# Altium footprint library Freezer_Power.PcbLib: 40 footprints (part 1 of 3)
Each footprint in its own frame and in the unit in brackets; x right, y up, seen from the top. Pads: shape width x height; smd on the part's side, far side on the other; paste and mask are expansions set on the pad; w line width, h text height; cw(c..) or ccw(c..) is an arc to the next point about the centre after c.
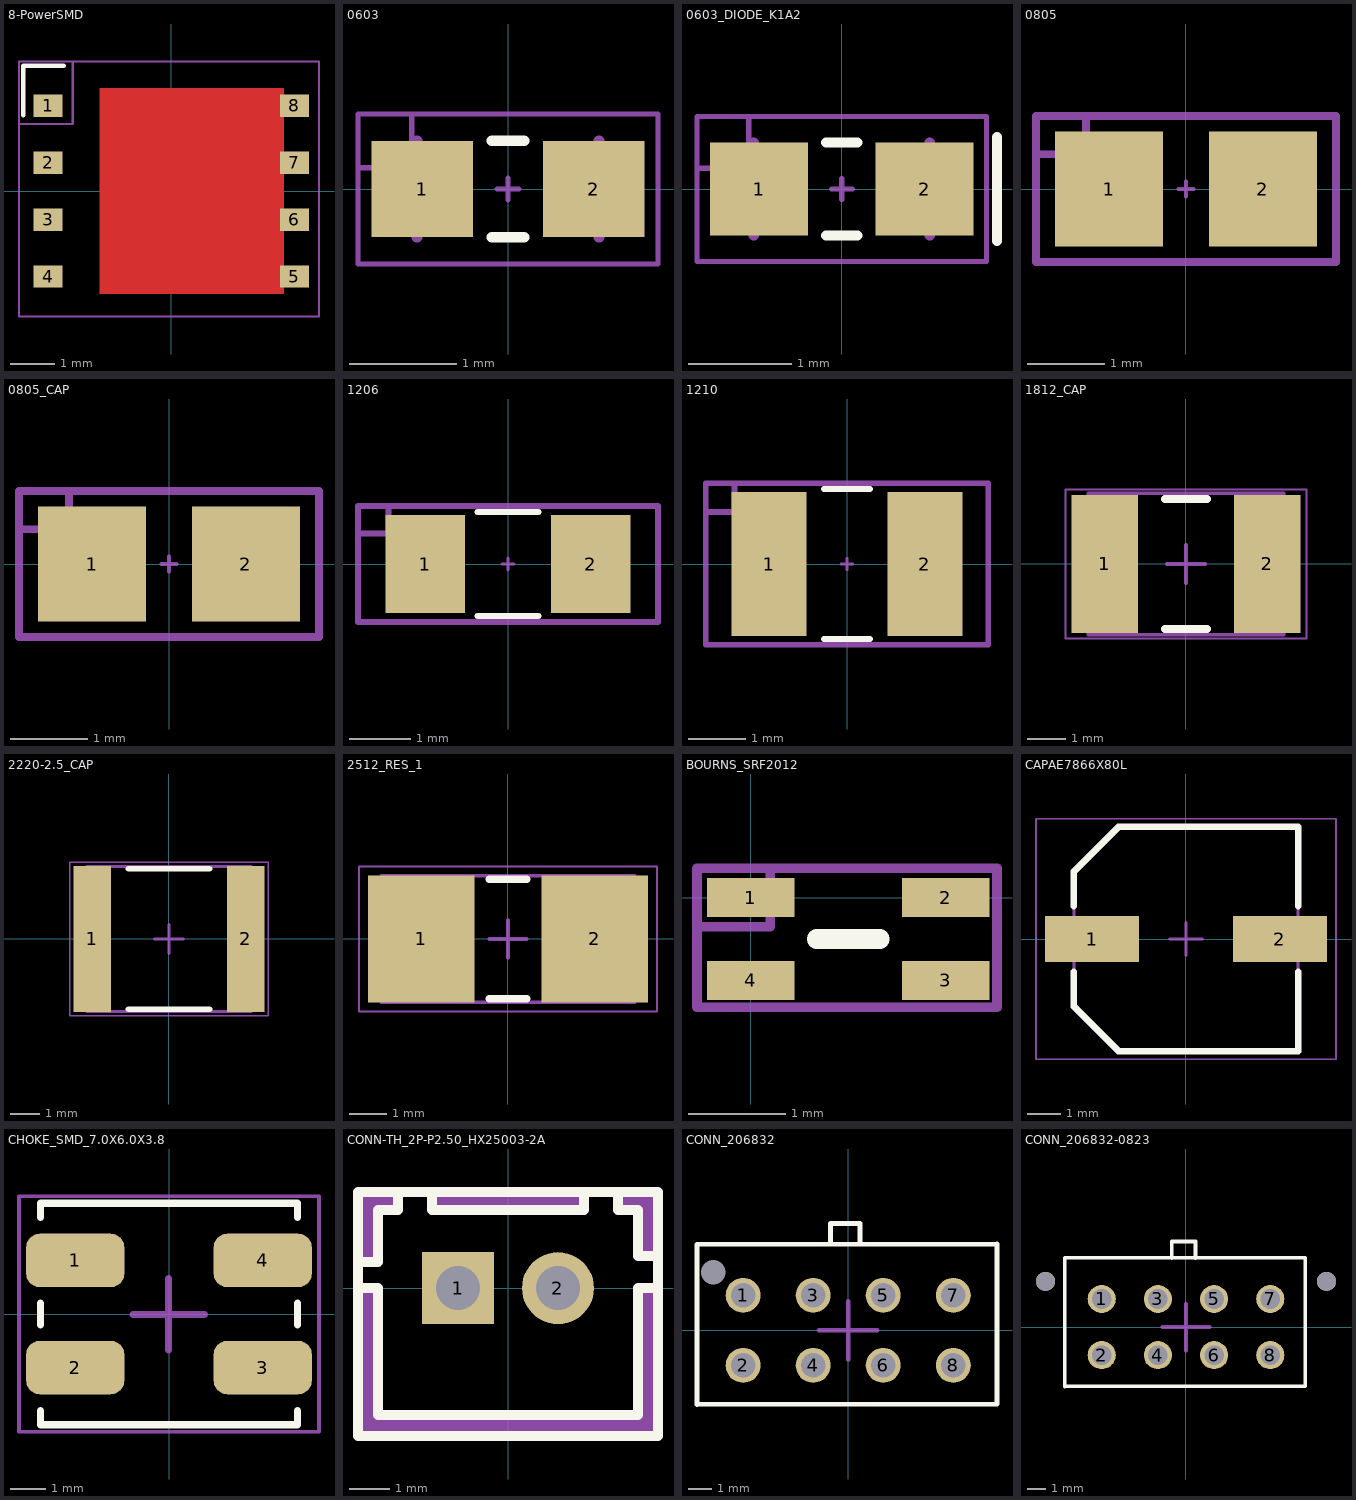
[diagram p0: the footprints below, top view; thin cyan lines are the x and y axes]

## 8-PowerSMD [mm]
height 1
pads (8):
  rect 0.65x0.5 smd paste-0.05 mask+0.051: 1(-2.75,1.905) 2(-2.75,0.635) 3(-2.75,-0.635) 4(-2.75,-1.905) 5(2.75,-1.905) 6(2.75,-0.635) 7(2.75,0.635) 8(2.75,1.905)
Top Layer:
  rectangle: -1.6,-2.299 2.52,2.301
Top Overlay:
  lines w0.1: -3.3,1.7 -3.3,2.8 -2.4,2.8
Top Component Center:
  lines w0.1: -0.75,0 0.75,0 ; 0,-0.75 0,0.75
Top Courtyard:
  lines w0.05: -3.4,1.5 -2.2,1.5 -2.2,2.9 ; -3.4,-2.8 -3.4,2.9 3.3,2.9 3.3,-2.8 -3.4,-2.8
  lines w0.1: -0.75,0 0.75,0 ; 0,-0.75 0,0.75
Top Designator:
  text ".Designator" at -2.252,-0.226 h1
3D body: height 1, standoff 0, extent -2.825,-2.65 2.825,2.65

## 0603 [mm] "Chip Capacitor, 2-Leads, Body 1.60x0.80mm, IPC Medium Density"
height 0.6
pads (2):
  rect 0.95x0.9 smd: 1(-0.8,0) 2(0.8,0)
Top Overlay:
  lines w0.1: -0.15,-0.45 0.15,-0.45 ; -0.15,0.45 0.15,0.45
Top Courtyard:
  lines w0.05: -1.4,0.2 -0.9,0.2 -0.9,0.675 ; -0.1,0 0.1,0 ; 0,-0.1 0,0.1 ; -1.4,-0.7 1.4,-0.7 1.4,0.7 -1.4,0.7 -1.4,-0.7
Top Designator:
  text ".Designator" at -1.3,-0.3 h1
Top 3D Body:
  lines w0.1: -0.85,-0.45 -0.85,0.45 ; 0.85,-0.45 0.85,0.45
3D body: height 0.6, standoff 0, extent -0.45,-0.45 0.45,0.45
3D body: height 0.6, standoff 0, extent 0.45,-0.45 0.85,0.45
3D body: height 0.6, standoff 0, extent -0.85,-0.45 -0.45,0.45

## 0603_DIODE_K1A2 [mm] "Chip Capacitor, 2-Leads, Body 1.60x0.80mm, IPC Medium Density"
height 0.6
pads (2):
  rect 0.95x0.9 smd: 1(-0.8,0) 2(0.8,0)
Top Overlay:
  lines w0.1: -0.15,-0.45 0.15,-0.45 ; -0.15,0.45 0.15,0.45 ; 1.5,-0.5 1.5,0.5
Top Component Center:
  lines w0.05: -0.1,0 0.1,0 ; 0,-0.1 0,0.1
Top Courtyard:
  lines w0.05: -1.4,0.2 -0.9,0.2 -0.9,0.675 ; -0.1,0 0.1,0 ; 0,-0.1 0,0.1 ; -1.4,-0.7 1.4,-0.7 1.4,0.7 -1.4,0.7 -1.4,-0.7
Top Designator:
  text ".Designator" at -2.252,-0.226 h1
Top 3D Body:
  lines w0.1: -0.85,-0.45 -0.85,0.45 ; 0.85,-0.45 0.85,0.45
3D body: height 0.6, standoff 0, extent -0.45,-0.45 0.45,0.45
3D body: height 0.6, standoff 0, extent 0.45,-0.45 0.85,0.45
3D body: height 0.6, standoff 0, extent -0.85,-0.45 -0.45,0.45

## 0805 [mm] "Generic 0805 Footprint"
height 2
pads (2):
  rect 1.4x1.5 smd: 1(-1,0) 2(1,0)
Top Courtyard:
  lines w0.05: -0.1,0 0.1,0 ; 0,-0.1 0,0.1
  lines w0.1: -1.95,0.45 -1.3,0.45 -1.3,0.95 ; -1.95,-0.95 1.95,-0.95 1.95,0.95 -1.95,0.95 -1.95,-0.95
Top Designator:
  text ".Designator" at -1.8,-0.37 h1
3D body "User Library-RESC2012X05N.STEP": height 0.45, standoff 0, extent -1.009,-0.625 0.991,0.625

## 0805_CAP [mm] "Generic 0805 Footprint"
height 2
pads (2):
  rect 1.4x1.5 smd: 1(-1,0) 2(1,0)
Top Courtyard:
  lines w0.05: -0.1,0 0.1,0 ; 0,-0.1 0,0.1
  lines w0.1: -1.95,0.45 -1.3,0.45 -1.3,0.95 ; -1.95,-0.95 1.95,-0.95 1.95,0.95 -1.95,0.95 -1.95,-0.95
Top Designator:
  text ".Designator" at -1.8,-0.37 h1
3D body: height 1.4, standoff 0, extent -1,-0.625 1,0.625

## 1206 [mm] "Generic 1206"
height 3
pads (2):
  rect 1.3x1.6 smd: 1(-1.35,0) 2(1.35,0)
Top Overlay:
  lines w0.1: -0.5,-0.85 0.5,-0.85 ; -0.5,0.85 0.5,0.85
Top Courtyard:
  lines w0.05: -0.1,0 0.1,0 ; 0,-0.1 0,0.1
  lines w0.1: -2.45,0.5 -1.95,0.5 -1.95,0.95 ; -2.45,-0.95 -2.45,0.95 2.45,0.95 2.45,-0.95 -2.45,-0.95
Top Designator:
  text ".Designator" at -2.3,-0.5 h1
3D body "User Library-CAPC3216X___.STEP": height 0.57, standoff 0, extent -1.6,-0.81 1.6,0.81

## 1210 [mm] "Generic 1210"
height 3
pads (2):
  rect 1.3x2.5 smd: 1(-1.35,0) 2(1.35,0)
Top Overlay:
  lines w0.1: -0.4,-1.3 0.4,-1.3 ; -0.4,1.3 0.4,1.3
Top Component Center:
  lines w0.05: -0.1,0 0.1,0 ; 0,-0.1 0,0.1
Top Courtyard:
  lines w0.1: -2.45,0.9 -1.95,0.9 -1.95,1.4 ; -2.45,-1.4 2.45,-1.4 2.45,1.4 -2.45,1.4 -2.45,-1.4
Top Designator:
  text ".Designator" at -2.252,-0.226 h1
Mechanical 15:
  lines w0.05: -0.1,0 0.1,0 ; 0,-0.1 0,0.1
3D body "User Library-RESC3225X06N.STEP": height 0.55, standoff 0, extent -1.6,-1.25 1.6,1.25

## 1812_CAP [mm]
height 2.8
pads (2):
  rect 1.75x3.6 smd: 1(-2.125,0) 2(2.125,0)
Top Overlay:
  lines w0.2: -0.55,-1.7 0.55,-1.7 ; -0.55,1.7 0.55,1.7
Top Assembly:
  lines w0.1: -2.55,-1.85 2.55,-1.85 2.55,1.85 -2.55,1.85 -2.55,-1.85
Top Component Center:
  lines w0.1: -0.5,0 0.5,0 ; 0,-0.5 0,0.5
Top Courtyard:
  lines w0.05: -3.15,-1.95 3.15,-1.95 3.15,1.95 -3.15,1.95 -3.15,-1.95
Top Designator:
  text ".Designator" at -2.252,-0.226 h1
3D body "1812_CAP.step": height 2.8, standoff 0, extent -2.55,-1.85 2.55,1.85

## 2220-2.5_CAP [mm] "Chip Capacitor, 2-Leads, Body 5.70x5.00mm, IPC High Density"
height 2.5
pads (2):
  rect 1.3x5.05 smd: 1(-2.65,0) 2(2.65,0)
Top Overlay:
  lines w0.2: -1.4,-2.425 1.4,-2.425 ; -1.4,2.425 1.4,2.425
Top Assembly:
  lines w0.1: -2.85,-2.5 2.85,-2.5 2.85,2.5 -2.85,2.5 -2.85,-2.5
Top Courtyard:
  lines w0.05: -3.425,-2.65 3.425,-2.65 3.425,2.65 -3.425,2.65 -3.425,-2.65
  lines w0.1: -0.5,0 0.5,0 ; 0,-0.5 0,0.5
Top Designator:
  text ".Designator" at -2.252,-0.226 h1
3D body "2220-2.5_CAP.step": height 2.5, standoff 0, extent -2.85,-2.5 2.85,2.5

## 2512_RES_1 [mm]
height 1
pads (2):
  rect 2.85x3.4 smd: 1(-2.325,0) 2(2.325,0)
Top Overlay:
  lines w0.2: -0.5,-1.6 0.5,-1.6 ; -0.5,1.6 0.5,1.6
Top Assembly:
  lines w0.1: -3.4,-1.7 -3.4,1.7 3.4,1.7 3.4,-1.7 -3.4,-1.7
Top Courtyard:
  lines w0.05: -4,-1.95 -4,1.95 4,1.95 4,-1.95 -4,-1.95
  lines w0.1: -0.5,0 0.5,0 ; 0,-0.5 0,0.5
3D body "2512_RES_1.step": height 1, standoff 0, extent -3.4,-1.7 3.4,1.7

## BOURNS_SRF2012 [mm] "Bourns Common Mode Choke"
height 1.2
pads (4):
  rect 0.9x0.4 smd: 1(0,0) 2(2,0) 3(2,-0.85) 4(0,-0.85)
Top Overlay:
  lines w0.2: 0.675,-0.425 1.325,-0.425
Mechanical 15:
  lines w0.1: -0.55,-0.3 0.2,-0.3 0.2,0.3 ; -0.55,-1.125 -0.55,0.3 2.525,0.3 2.525,-1.125 -0.55,-1.125
Mechanical 22:
  text ".Designator" at 0.3,-0.9 h1
3D body: height 1.2, standoff 0, extent 0,-1.025 2,0.175

## CAPAE7866X80L [mm] "Aluminum Electrolytic Capacitor, Body 6.60x6.60x8.00mm, IPC High Density"
height 8
pads (2):
  rect 2.85x1.4 smd: 1(-2.85,0) 2(2.85,0)
Top Overlay:
  lines w0.2: -3.4,-1 -3.4,-2.05 -2.05,-3.4 3.4,-3.4 3.4,-1 ; -3.4,1 -3.4,2.05 -2.05,3.4 3.4,3.4 3.4,1
Top Assembly:
  lines w0.1: -3.4,-2.05 -2.05,-3.4 3.4,-3.4 3.4,3.4 -2.05,3.4 -3.4,2.05 -3.4,-2.05
Top Component Center:
  lines w0.1: -0.5,0 0.5,0 ; 0,-0.5 0,0.5
Top Courtyard:
  lines w0.05: -4.55,-3.65 -4.55,3.65 4.55,3.65 4.55,-3.65 -4.55,-3.65
  lines w0.1: -0.5,0 0.5,0 ; 0,-0.5 0,0.5
Top Designator:
  text ".Designator" at -5.198,-0.866 h1
3D body "CAPAE7866X80L.step": height 8, standoff 0, extent -3.9,-3.4 3.9,3.4

## CHOKE_SMD_7.0X6.0X3.8 [mm] "Common mode choke 38.5 x 26.5 x 35 with 20.5 x 24.5 lead spacing and 1.6mm wire diameter."
height 27.5
pads (4):
  rrect50% 2.75x1.5 smd: 1(-2.625,1.5) 2(-2.625,-1.5) 3(2.625,-1.5) 4(2.625,1.5)
Top Overlay:
  lines w0.2: -3.6,-2.7 -3.6,-3.1 3.6,-3.1 3.6,-2.7 ; -3.6,-0.3 -3.6,0.3 ; -3.6,2.7 -3.6,3.1 3.6,3.1 3.6,2.7 ; 3.6,-0.3 3.6,0.3
Top Component Center:
  lines w0.2: -1.013,-0.013 0.987,-0.013 ; -0.013,-1.013 -0.013,0.987
Top Courtyard:
  lines w0.1: -4.2,-3.3 -4.2,3.3 4.2,3.3 4.2,-3.3 -4.2,-3.3
Top Designator:
  text ".Designator" at -2.265,-0.239 h1
3D body: height 3.8, standoff 0, extent -3.5,-3 3.5,3

## CONN-TH_2P-P2.50_HX25003-2A [mm]
height 12
pads (2):
  rect 1.8x1.8 hole 1.1 paste+0 mask+0.05: 1(-1.25,0)
  round 1.8 hole 1.1 paste+0 mask+0.05: 2(1.25,0)
Top Overlay:
  lines w0.254: -3.75,-2.416 -3.75,0 -3.25,0 -3.25,-2.416 -3.25,-3.167 3.25,-3.167 3.25,-2.344 3.25,0 3.75,0 3.75,-2.344 ; -3.75,-1.603 -3.75,0.648 -3.25,0.65 -3.25,1.958 -2.75,1.958 -2.75,2.408 ; -1.9,1.95 -1.9,2.4 ; -1.9,1.958 1.9,1.958 ; 1.9,1.95 1.9,2.4 ; 2.75,1.95 2.75,2.399 ; 2.75,1.958 3.25,1.958 3.25,0.8 3.75,0.8 3.75,-1.501 ; -3.75,-3.7 -3.75,2.4 3.75,2.4 3.75,-3.7 -3.75,-3.7
Mechanical 15:
  region: 1.9,2.4 1.9,1.9 -1.9,1.9 -1.9,2.4
  region: 3.25,0 3.75,0 3.75,-3.7 -3.75,-3.7 -3.75,-0.05 -3.25,0 -3.25,-3.167 3.25,-3.167
  region: -2.75,1.9 -3.241,1.9 -3.25,1.908 -3.25,0.75 -3.75,0.75 -3.75,2.35 -2.751,2.35 -2.75,2.349
  region: 2.75,1.95 3.242,1.95 3.25,1.958 3.25,0.8 3.75,0.8 3.75,2.4 2.751,2.4 2.75,2.399
3D body "JST - XH - Thru (V) - 2Pin - 2.54mm.stp": height 7.21, standoff -3, extent -3.607,-3.353 3.607,2.489

## CONN_206832 [mm]
height 9.4
pads (9):
  round 0 hole 1.05 unplated: 0(-5.78,2.48)
  round 1.5 hole 1.05: 1(-4.5,1.5) 2(-4.5,-1.5) 3(-1.5,1.5) 4(-1.5,-1.5) 5(1.5,1.5) 6(1.5,-1.5) 7(4.5,1.5) 8(4.5,-1.5)
Top Overlay:
  lines w0.2: -0.762,3.683 -0.762,4.572 0.465,4.572 ; 0.508,3.683 0.508,4.572 ; -6.477,-3.176 -6.477,3.684 6.373,3.695 6.373,-3.164 -6.477,-3.176
Top Component Center:
  lines w0.2: -1.25,0 1.25,0 ; 0,-1.25 0,1.25
Top Courtyard:
  lines w0.2: -1.25,0 1.25,0 ; 0,-1.25 0,1.25
3D body "2068320823.stp": height 9.95, standoff -3.14, extent -6.425,-3.43 6.425,4.83

## CONN_206832-0823 [mm]
height 9.4
pads (10):
  round 1.5 hole 1.05: 1(-4.5,1.5) 2(-4.5,-1.5) 3(-1.5,1.5) 4(-1.5,-1.5) 5(1.5,1.5) 6(1.5,-1.5) 7(4.5,1.5) 8(4.5,-1.5)
  round 1.02 hole 1.02 unplated: ""(-7.5,2.44) ""(7.5,2.44)
Top Overlay:
  lines w0.2: -0.762,3.683 -0.762,4.572 0.465,4.572 ; 0.508,3.683 0.508,4.572 ; -6.477,-3.176 -6.477,3.684 6.373,3.695 6.373,-3.164 -6.477,-3.176
Top Component Center:
  lines w0.2: -1.25,0 1.25,0 ; 0,-1.25 0,1.25
Top Courtyard:
  lines w0.2: -1.25,0 1.25,0 ; 0,-1.25 0,1.25
3D body "0430450827--3DModel-STEP-231308.STEP": height 10.03, standoff -3.06, extent -8.075,-3.97 8.075,4.8